# Altium footprint library PaivacbLib1.PcbLib: 39 footprints (part 1 of 3)
Each footprint in its own frame and in the unit in brackets; x right, y up, seen from the top. Pads: shape width x height; smd on the part's side, far side on the other; paste and mask are expansions set on the pad; w line width, h text height; cw(c..) or ccw(c..) is an arc to the next point about the centre after c.
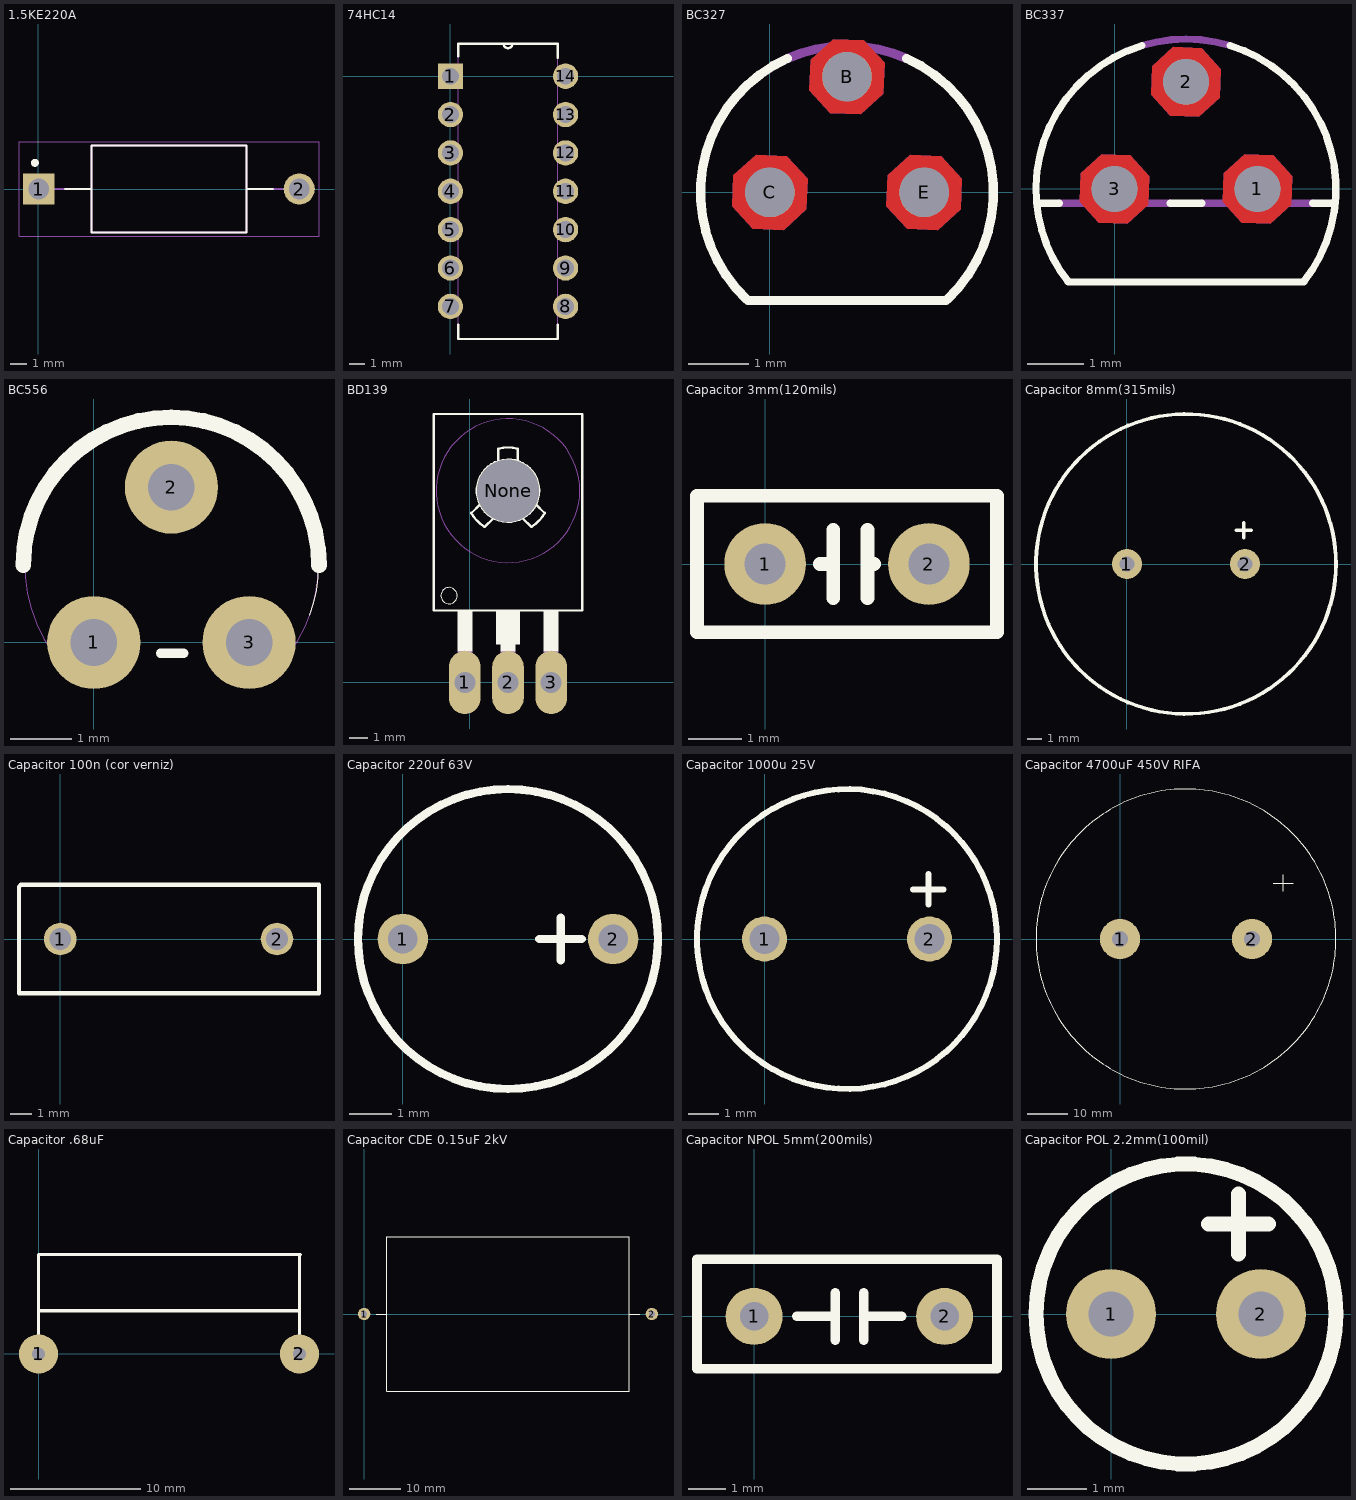
[diagram p0: the footprints below, top view; thin cyan lines are the x and y axes]

## 1.5KE220A [mil]
pads (2):
  rect 75x75 hole 50: 1(1.61,0)
  round 75 hole 50: 2(628.39,0)
Top Overlay:
  circle w9.45: c-7.83,62.99 r4.72
  lines w5: 65,0 127.99,0 ; 565,0 502.01,0 ; 127.99,0 127.99,-104.33 502.01,-104.33 502.01,0 ; 127.99,0 127.99,104.33 502.01,104.33 502.01,0
Mechanical 4:
  lines w5: 127.99,-104.33 127.99,0 ; 127.99,-104.33 502.01,-104.33 ; 127.99,-104.33 127.99,0 ; 127.99,-104.33 502.01,-104.33 ; 127.99,0 1.61,0 127.99,0 ; 127.99,0 127.99,104.33 ; 127.99,0 127.99,104.33 ; 127.99,104.33 502.01,104.33 ; 127.99,104.33 502.01,104.33 ; 502.01,-104.33 502.01,0 ; 502.01,-104.33 502.01,0 ; 502.01,0 628.39,0 502.01,0 ; 502.01,0 502.01,104.33 ; 502.01,0 502.01,104.33
Mechanical 16:
  lines w1.97: -46.02,-114.17 676.02,-114.17 676.02,114.17 -46.02,114.17 -46.02,-114.17

## 74HC14 [mil]
pads (14):
  rect 66x66 hole 44: 1(0,0)
  round 66 hole 44: 2(0,-100) 3(0,-200) 4(0,-300) 5(0,-400) 6(0,-500) 7(0,-600) 8(300,-600) 9(300,-500) 10(300,-400) 11(300,-300) 12(300,-200) 13(300,-100) 14(300,0)
Top Overlay:
  lines w6: 20,-648 20,-685 280,-685 280,-648 ; 20,52 20,85 138,85 ; 280,48 280,85 162,85 ; 138,85 ccw(c150,85) 162,85 ; 138,85 162,85
Mechanical 1:
  lines w0: 138,85 ccw(c150,85) 162,85 ; 138,85 162,85 ; 138,85 20,85 20,-685 280,-685 280,85 162,85 ; -22,-622 -22,-578 20,-578 20,-622 -22,-622 ; -22,-522 -22,-478 20,-478 20,-522 -22,-522 ; -22,-422 -22,-378 20,-378 20,-422 -22,-422 ; -22,-322 -22,-278 20,-278 20,-322 -22,-322 ; -22,-222 -22,-178 20,-178 20,-222 -22,-222 ; -22,-122 -22,-78 20,-78 20,-122 -22,-122 ; -22,-22 -22,22 20,22 20,-22 -22,-22 ; 280,-622 280,-578 322,-578 322,-622 280,-622 ; 280,-522 280,-478 322,-478 322,-522 280,-522 ; 280,-422 280,-378 322,-378 322,-422 280,-422 ; 280,-322 280,-278 322,-278 322,-322 280,-322 ; 280,-222 280,-178 322,-178 322,-222 280,-222 ; 280,-122 280,-78 322,-78 322,-122 280,-122 ; 280,-22 280,22 322,22 322,-22 280,-22

## BC327 [mil]
pads (3):
  round 32 hole 32: B(50,75) C(0,0) E(100,0)
Top Layer:
  region: 124.43,8.89 110.99,23.56 91.11,24.43 76.44,10.99 75.57,-8.89 89.01,-23.56 108.89,-24.43 123.56,-10.99
  region: 74.43,83.89 60.99,98.56 41.11,99.43 26.44,85.99 25.57,66.11 39.01,51.44 58.89,50.57 73.56,64.01
  region: 24.43,8.89 10.99,23.56 -8.89,24.43 -23.56,10.99 -24.43,-8.89 -10.99,-23.56 8.89,-24.43 23.56,-10.99
Bottom Layer:
  region: 124.43,8.89 110.99,23.56 91.11,24.43 76.44,10.99 75.57,-8.89 89.01,-23.56 108.89,-24.43 123.56,-10.99
  region: 74.43,83.89 60.99,98.56 41.11,99.43 26.44,85.99 25.57,66.11 39.01,51.44 58.89,50.57 73.56,64.01
  region: 24.43,8.89 10.99,23.56 -8.89,24.43 -23.56,10.99 -24.43,-8.89 -10.99,-23.56 8.89,-24.43 23.56,-10.99
Top Overlay:
  lines w6: -14.78,-69.48 cw(c50.01,0) 11.37,86.79 ; -14.21,-70 114.21,-70 ; 88.63,86.79 cw(c49.99,0) 114.78,-69.48
Mechanical 4:
  lines w6: 11.36,86.79 cw(c50,0) 88.64,86.79 ccw(c50,0) 11.36,86.79
Multi-Layer:
  region: 124.43,8.89 110.99,23.56 91.11,24.43 76.44,10.99 75.57,-8.89 89.01,-23.56 108.89,-24.43 123.56,-10.99
  region: 74.43,83.89 60.99,98.56 41.11,99.43 26.44,85.99 25.57,66.11 39.01,51.44 58.89,50.57 73.56,64.01
  region: 24.43,8.89 10.99,23.56 -8.89,24.43 -23.56,10.99 -24.43,-8.89 -10.99,-23.56 8.89,-24.43 23.56,-10.99

## BC337 [mil]
pads (3):
  round 32 hole 32: 1(100,0) 2(50,75) 3(0,0)
Top Layer:
  region: 24.43,8.89 10.99,23.56 -8.89,24.43 -23.56,10.99 -24.43,-8.89 -10.99,-23.56 8.89,-24.43 23.56,-10.99
  region: 74.43,83.89 60.99,98.56 41.11,99.43 26.44,85.99 25.57,66.11 39.01,51.44 58.89,50.57 73.56,64.01
  region: 124.43,8.89 110.99,23.56 91.11,24.43 76.44,10.99 75.57,-8.89 89.01,-23.56 108.89,-24.43 123.56,-10.99
Bottom Layer:
  region: 24.43,8.89 10.99,23.56 -8.89,24.43 -23.56,10.99 -24.43,-8.89 -10.99,-23.56 8.89,-24.43 23.56,-10.99
  region: 74.43,83.89 60.99,98.56 41.11,99.43 26.44,85.99 25.57,66.11 39.01,51.44 58.89,50.57 73.56,64.01
  region: 124.43,8.89 110.99,23.56 91.11,24.43 76.44,10.99 75.57,-8.89 89.01,-23.56 108.89,-24.43 123.56,-10.99
Top Overlay:
  lines w5: -54.52,-10 -38.73,-10 ; -32.74,-64.65 cw(c50,0) -54.6,-9.15 cw(c50,0) 19.3,100.41 ; -32.46,-65 132.46,-65 ; 38.73,-10 61.27,-10 ; 80.7,100.41 cw(c50,0) 132.74,-64.64 ; 138.73,-10 154.52,-10
Mechanical 4:
  lines w5: -38.73,-10 38.73,-10 -38.73,-10 ; 19.3,100.41 cw(c50,0) 80.7,100.41 ccw(c50,0) 19.3,100.41 ; 61.27,-10 138.73,-10 61.27,-10
  text "1" at 95,-9.84 h73.82
  text "3" at -35,-9.84 h73.82
  text "2" at 25,15.16 h73.82
  text "1" at 95,-9.84 h73.82
  text "3" at -35,-9.84 h73.82
  text "2" at 25,15.16 h73.82
Multi-Layer:
  region: 24.43,8.89 10.99,23.56 -8.89,24.43 -23.56,10.99 -24.43,-8.89 -10.99,-23.56 8.89,-24.43 23.56,-10.99
  region: 74.43,83.89 60.99,98.56 41.11,99.43 26.44,85.99 25.57,66.11 39.01,51.44 58.89,50.57 73.56,64.01
  region: 124.43,8.89 110.99,23.56 91.11,24.43 76.44,10.99 75.57,-8.89 89.01,-23.56 108.89,-24.43 123.56,-10.99

## BC556 [mil]
pads (3):
  round 60 hole 30: 1(0,0) 2(50,100) 3(100,0)
Top Overlay:
  lines w0: 139.18,17.48 ccw(c48.42,50.51) 145,50.51
  lines w6: 43,-7 58,-7
  lines w10: -45.51,49.71 cw(c49.75,49.71) 145,49.71
Mechanical 1:
  lines w0: -26.49,-6.33 cw(c50,49.24) 125.51,-7.66

## BD139 [mil]
pads (4):
  oval 66x132 hole 44: 1(-10,0) 2(80,0) 3(170,0)
  round 130 hole 130 unplated: None(80,400)
Top Overlay:
  circle w0: c-43,181 r17
  circle w5: c80,400 r65
  region: 55,150 105,150 105,80 55,80
  region: -25,150 5,150 5,65 -25,65
  region: 65,150 95,150 95,65 65,65
  region: 155,150 185,150 185,65 155,65
  lines w5: 2.85,353.65 ccw(c80,400) 30.98,324.52 ; 3.26,352.98 21.78,371.09 ; 31.21,324.37 49.74,342.47 ; 59.75,487.69 cw(c80,400) 100.25,487.69 ; 60,461.85 60,487.75 ; 100,461.85 100,487.75 ; 110.26,342.47 128.79,324.37 ; 129.02,324.52 ccw(c80,400) 157.15,353.65 ; 138.22,371.09 156.74,352.98 ; -75,150 -75,560 235,560 235,150 -75,150
Mechanical 1:
  circle w0: c80,400 r150
  circle w0: c80,400 r150
  region: -25,65 5,65 5,-5 -25,-5
  region: 65,65 95,65 95,-5 65,-5
  region: 155,65 185,65 185,-5 155,-5
  text "1" at -20,155.16 h73.82
  text "2" at 60,155.16 h73.82
  text "3" at 150,155.16 h73.82

## Capacitor 3mm(120mils) [mil]
pads (2):
  round 60 hole 30: 1(0,0) 2(120,0)
Top Overlay:
  lines w10: 40,0 50,0 50,25 50,-25 ; 75,-25 75,25 75,0 80,0 ; 170,-35 170,-12.5 170,0 170,50 ; 170,50 155,50 -50,50 -50,-50 155,-50 170,-50 170,50

## Capacitor 8mm(315mils) [mil]
pads (2):
  round 80 hole 40: 1(0,0) 2(315,0)
Top Overlay:
  circle w10: c157.5,0 r400
  lines w10: 291.25,90 331.25,90 ; 311.25,70 311.25,110

## Capacitor 100n (cor verniz) [mm]
pads (2):
  round 1.5 hole 1: 1(0,0) 2(10,0)
Top Overlay:
  lines w0.2: -1.905,-2.5 11.938,-2.5 11.938,2.5 -1.818,2.5 -1.905,2.413 -1.905,-2.5

## Capacitor 220uf 63V [mm]
pads (2):
  round 1.2 hole 0.7: 1(0,0) 2(5,0)
Top Overlay:
  circle w0.2: c2.5,0 r3.567
  lines w0.2: 3.242,0 4.258,0 ; 3.75,-0.508 3.75,0.508

## Capacitor 1000u 25V [mm]
pads (2):
  round 1.5 hole 1: 1(0,0) 2(5.5,0)
Top Overlay:
  circle w0.2: c2.75,0 r5
  lines w0.2: 4.953,1.651 5.969,1.651 ; 5.461,1.143 5.461,2.159

## Capacitor 4700uF 450V RIFA [mm]
pads (2):
  round 10 hole 4: 1(0,0) 2(33,0)
Top Overlay:
  circle w0.2: c16.5,0 r37.5
  lines w0.2: 38.354,13.97 43.307,13.97 ; 40.767,11.938 40.767,16.002

## Capacitor .68uF [mm]
pads (2):
  round 3 hole 1: 1(0,0) 2(20,0)
Top Overlay:
  lines w0.254: 0,0 0,3.302 ; 20,0 20,4.887 20,3.302 0,3.302 ; 20,4.953 20,7.554 20.066,7.62 0,7.62 0,5.08 0,3.302

## Capacitor CDE 0.15uF 2kV [mm]
pads (2):
  round 2.4 hole 1.2: 1(0,0) 2(56,0)
Top Overlay:
  lines w0.2: 2.4,0 4.375,0 ; 51.625,0 53.6,0 ; 4.375,0 4.375,-15 51.625,-15 51.625,15 4.375,15 4.375,0

## Capacitor NPOL 5mm(200mils) [mil]
pads (2):
  round 60 hole 30: 1(0,0) 2(200,0)
Top Overlay:
  lines w10: 45,0 85,0 85,-25 85,25 ; 115,-25 115,25 115,0 155,0 ; -60,-55 255,-55 255,-26.25 255,31.25 255,60 145,60 -60,60 -60,-55

## Capacitor POL 2.2mm(100mil) [mil]
pads (2):
  round 60 hole 30: 1(0,0) 2(100,0)
Top Overlay:
  circle w10: c50,0 r100
  lines w10: 65,60 105,60 ; 85,40 85,80